# Altium schematic symbol library SN74LV1T34DBVRG4.SchLib: 1 symbol
Pins are listed as number, name and electrical type; pins without a type are passive.

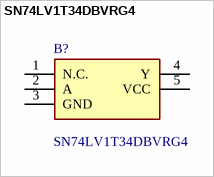
[diagram p0: symbol SN74LV1T34DBVRG4]

## SN74LV1T34DBVRG4
designator B?
Single Power Supply BUFFER Logic Level Shifter (no enable); Manufacturer_Name: Texas Instruments; Geometry.Height: 1.45mm; Mouser Part Number: 595-SN74LV1T34DBVRG4; Mouser Price/Stock: https://www.mouser.co.uk/ProductDetail/Texas-Instruments/SN74LV1T34DBVRG4?qs=vdi0iO8H4N10R%252Bt%252BjmxZrg%3D%3D; Manufacturer_Part_Number: SN74LV1T34DBVRG4; Datasheet Link: http://www.ti.com/lit/gpn/sn74lv1t34
footprint SOT95P280X145-5N
pins: 1 N.C., 2 A, 3 GND, 4 Y, 5 VCC